# EAGLE library part AQH3213A (library HEXABITZ_ICs)
AH-H Series SPST 1.2 A 600 V Surface Mount Zero Cross State Relay - SMD-8
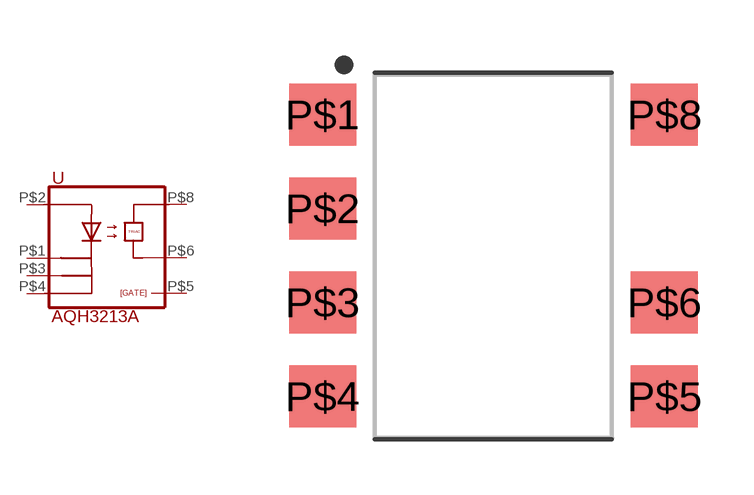
[diagram p21: symbol with the pads of AQH3213A; footprint AQH3213A]

Designator prefix U

## AQH3213ASOP8  [AQH3213A]
P$1  P$1
P$2  P$2
P$3  P$3
P$4  P$4
P$5  P$5
P$6  P$6
P$8  P$7

## Footprint AQH3213A (pad centres in mm)
8-SOP, 2.54 mm pitch, 10.20 mm span, 9.78 X 6.40 X 3.40 mm body 8-pin SOP package with 2.54 mm pitch, 10.20 mm span with body size 9.78 X 6.40 X 3.40 mm
smd 1.812 x 1.672: P$1 -4.62,3.81; P$2 -4.62,1.27; P$3 -4.62,-1.27; P$4 -4.62,-3.81; P$5 4.62,-3.81; P$6 4.62,-1.27; P$8 4.62,3.81